# Altium schematic symbol library CONN1.SchLib: 1 symbol
Pins are listed as number, name and electrical type; pins without a type are passive.

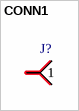
[diagram p0: symbol CONN1]

## CONN1
designator J?  (value not drawn)
Connector, 1x1
pins: 1